# EAGLE library part WE-PPTI_EP7 (library WE-PPTI)
WE-PPTI Push-Pull Transformers Characteristics Small size Surface mount Low profile Operating temp: -40°C to 125°C Functional or Reinforced Insulation Applications Isolated interface power supply for CAN, RS-485, RS-422, RS-232, SPI, I2C, lower-power LAN Industrial automation Process control Medical equipment PLC analog and digital I/O modules Isolated gate driver power supplies AC motor drives Uninterruptible power supplies (UPS) Solar inverters Polyphase energy meters Protection relays and IEDs <https://www.we-online.com/components/media/o715993v209%20Family-PPTI.jpg> Details see: www.we-online.com/en/components/products/WE-PPTI <www.we-online.com/catalog/WE-PPTI/?utm_source=eagle_model&utm_medium=description_link&utm_campaign=eisos_eagle> Created by Ella Wu 2023-02-20 2023 (C) Würth Elektronik
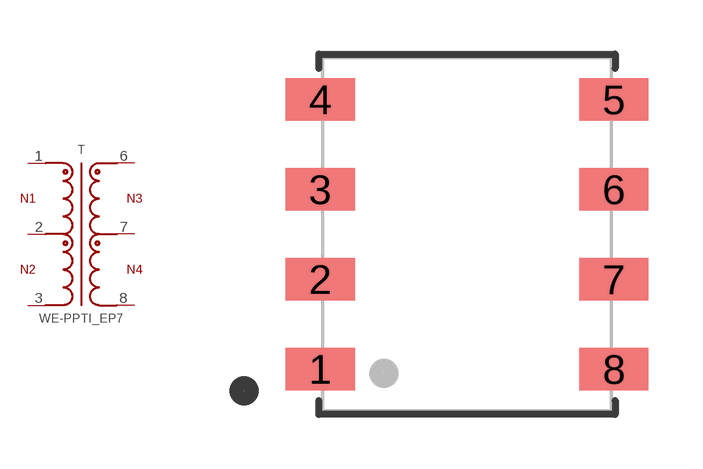
[diagram p9: symbol with the pads of WE-PPTI_EP7_L9.14W9.78H10.54; footprint WE-PPTI_EP7_L9.14W9.78H10.54]

Designator prefix T

## WE-PPTI_EP7_750314781_L9.14W9.78H10.54 (DATASHEET-URL: https://www.we-online.com/redexpert/spec/750314781?ae; FSWITCH: 1000 - 1500kHz; HEIGHT: 10.54 mm; IOUT1: 500 mA; IOUT2: 0.5A; L: 160 uH; LENGTH: 9.14 mm; MOUNT: SMT; N: 1:2; PART-NUMBER: 750314781; SIZE: EP7; TYPE-OF-INSULATION: Functional; VALUE: 750314781; VIN: 10 - 15 V (DC); VOLTAGE-TIME: 68 Vus; VOUT1: 12 V (DC); VOUT2: 12V; VT: 1000 V (AC); WIDTH: 9.78 mm), WE-PPTI_EP7_750315213_L9.14W9.78H10.54 (DATASHEET-URL: https://www.we-online.com/redexpert/spec/750315213?ae; FSWITCH: 150 - 500kHz; HEIGHT: 10.54 mm; IOUT1: 600 mA; L: 563 uH; LENGTH: 9.14 mm; MOUNT: SMT; N: 1:1; PART-NUMBER: 750315213; SIZE: EP7; TYPE-OF-INSULATION: Functional; VALUE: 750315213; VIN: 24 V (DC); VOLTAGE-TIME: 100 Vus; VOUT1: 24 V (DC); VT: 3125 V (AC); WIDTH: 9.78 mm), WE-PPTI_EP7_750315214_L9.14W9.78H10.54 (DATASHEET-URL: https://www.we-online.com/redexpert/spec/750315214?ae; FSWITCH: 150 - 500kHz; HEIGHT: 10.54 mm; IOUT1: 2000 mA; L: 563 uH; LENGTH: 9.14 mm; MOUNT: SMT; N: 4:1; PART-NUMBER: 750315214; SIZE: EP7; TYPE-OF-INSULATION: Functional; VALUE: 750315214; VIN: 24 V (DC); VOLTAGE-TIME: 100 Vus; VOUT1: 5 V (DC); VT: 3125 V (AC); WIDTH: 9.78 mm)  [WE-PPTI_EP7_L9.14W9.78H10.54]
1  1  pas
2  2  pas
3  3  pas
6  6  pas
7  7  pas
8  8  pas

## Footprint WE-PPTI_EP7_L9.14W9.78H10.54 (pad centres in mm)
WE-PPTI Push-Pull Transformers Size: EP7, SMT, 8pins LXWXH=9.14X9.78X10.54mm
smd 1.91 x 1.17: 1 -4.065,-3.735; 2 -4.065,-1.245; 3 -4.065,1.245; 4 -4.065,3.735; 5 4.065,3.735; 6 4.065,1.245; 7 4.065,-1.245; 8 4.065,-3.735